# EAGLE library part DRV8210 (library Harrington-ICs v35)
H-Bridge Motor Driver Texas Instruments - Drive Voltage: 1.65 - 11V - Signal Voltage: 1.65 - 5.5V - Max Current: 1.76A
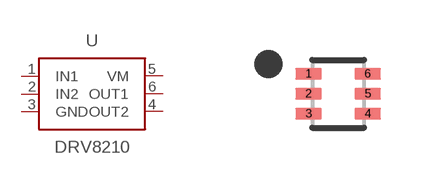
[diagram p6: symbol with the pads of SOT563; footprint SOT563]

Designator prefix U

## DRV8210  [SOT563]
1  IN1  in
2  IN2  in
3  GND  pwr
4  OUT2  out
5  VM  pwr
6  OUT1  out

## Footprint SOT563 (pad centres in mm)
smd 0.67 x 0.3: 1 -0.74,0.5; 2 -0.74,0; 3 -0.74,-0.5; 4 0.74,-0.5; 5 0.74,0; 6 0.74,0.5